# EAGLE library part TYPE-C-BR20-AK511 (library usb-pd)
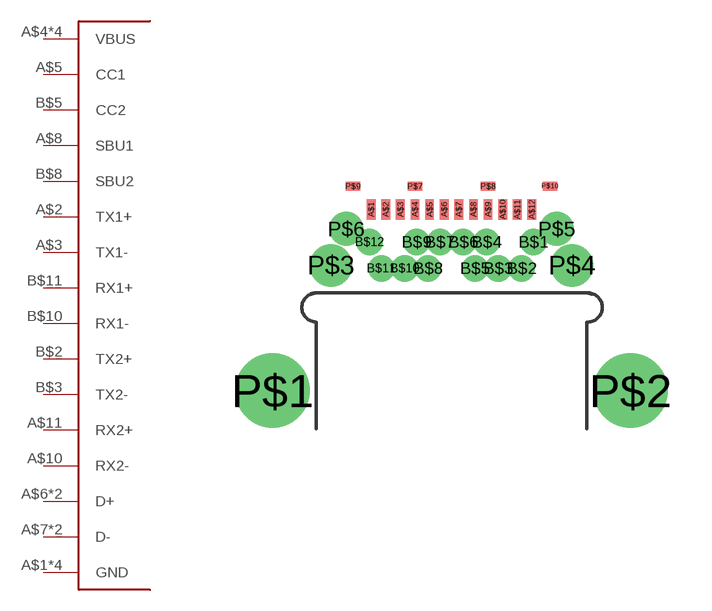
[diagram p2: symbol with the pads of TYPE-C-BR20-AK511; footprint TYPE-C-BR20-AK511]

Designator prefix -

## TYPE-C-BR20-AK511  [TYPE-C-BR20-AK511]
A$1  GND
A$2  TX1+
A$3  TX1-
A$4  VBUS
A$5  CC1
A$6  D+
A$7  D-
A$8  SBU1
A$9  VBUS
A$10  RX2-
A$11  RX2+
A$12  GND
B$1  GND
B$2  TX2+
B$3  TX2-
B$4  VBUS
B$5  CC2
B$6  D+
B$7  D-
B$8  SBU2
B$9  VBUS
B$10  RX1-
B$11  RX1+
B$12  GND

## Footprint TYPE-C-BR20-AK511 (pad centres in mm)
smd 0.3 x 0.7: A$1 -2.75,0; A$2 -2.25,0; A$3 -1.75,0; A$4 -1.25,0; A$5 -0.75,0; A$6 -0.25,0; A$7 0.25,0; A$8 0.75,0; A$9 1.25,0; A$10 1.75,0; A$11 2.25,0; A$12 2.75,0
drill 0.4 pad 0.55: B$1 2.8,-1.11; B$2 2.4,-2.01; B$3 1.6,-2.01; B$4 1.2,-1.11; B$5 0.8,-2.01; B$6 0.4,-1.11; B$7 -0.4,-1.11; B$8 -0.8,-2.01; B$9 -1.2,-1.11; B$10 -1.6,-2.01; B$11 -2.4,-2.01; B$12 -2.8,-1.11
drill 1.7 pad 2.3: P$1 -6.125,-6.2; P$2 6.125,-6.2
drill 0.95 pad 1.2: P$3 -4.125,-1.91; P$4 4.125,-1.91
drill 0.65 pad 0.85: P$5 3.6,-0.66; P$6 -3.6,-0.66
smd 0.5 x 0.3: P$7 -1.25,0.8; P$8 1.25,0.8; P$9 -3.375,0.8; P$10 3.375,0.8